# Altium schematic symbol library Connector-RF.SchLib: 2 symbols
Pins are listed as number, name and electrical type; pins without a type are passive.

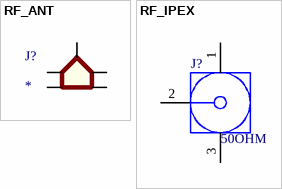
[diagram p0: symbols RF_ANT to RF_IPEX]

## RF_ANT
designator J?
RF 天线座; Manufacturer_Name: *; Manufacturer_Part_Number: *
footprint RF_MCX (MCX PCB Skt 50Ohm Gold Pl)
footprint RF_MCX-KWE Female
footprint RF_MMCX (MMCX R/A PCB Skt 50Ohm Gold Pl)
footprint RF_SMA-EDGE
footprint RF_SMA-KWE/90°
pins: 1, 2, 3, 4, 5

## RF_IPEX
designator J?, comment 50OHM
RF Coaxial PCB Connector, MCX; Thru-Hole, Right-Angle Mount Socket, Blunt Post Terminal, 50 Ohm Impedance; Manufacturer_Name: *; Manufacturer_Part_Number: *
footprint IPEX
footprint RF_IPEX
pins: 1 "Signal Pin", 2 "Signal Pin", 3 "Signal Pin"